# Altium footprint library SOT666.PcbLib: 1 footprints
Each footprint in its own frame and in the unit in brackets; x right, y up, seen from the top. Pads: shape width x height; smd on the part's side, far side on the other; paste and mask are expansions set on the pad; w line width, h text height; cw(c..) or ccw(c..) is an arc to the next point about the centre after c.
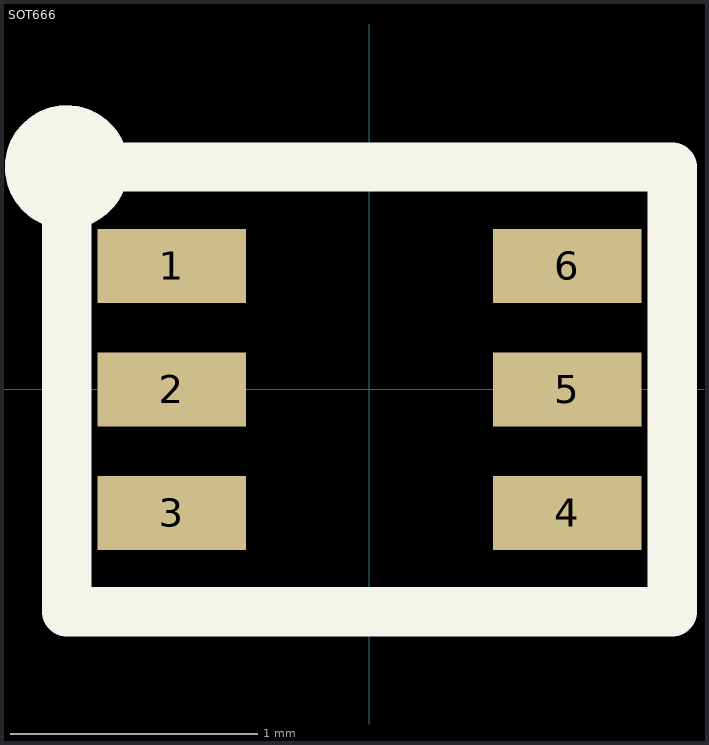
[diagram p0: the footprint, top view; thin cyan lines are the x and y axes]

## SOT666 [mm]
height 1
pads (6):
  rect 0.6x0.3 smd mask+0.025: 1(-0.8,0.5) 2(-0.8,0) 3(-0.8,-0.5) 4(0.8,-0.5) 5(0.8,0) 6(0.8,0.5)
Top Overlay:
  circle w0.25: c-1.225,0.9 r0.125
  lines w0.2: -1.225,-0.9 1.225,-0.9 1.225,0.9 -1.225,0.9 -1.225,-0.9
Top Assembly:
  circle w0.25: c-1.225,0.9 r0.125
  lines w0.1: -1.225,-0.9 -1.225,0.9 1.225,0.9 1.225,-0.9 -1.225,-0.9
  text "'.Designator'" at -0.925,-0.35 h0.7
3D body "SOT666.STEP": height 0.6, standoff 0, extent -0.8,-0.795 0.8,0.795